# EAGLE library part ELECMETER_MA07-2 (library HOME_AutomationV_1.0)
PIN HEADER
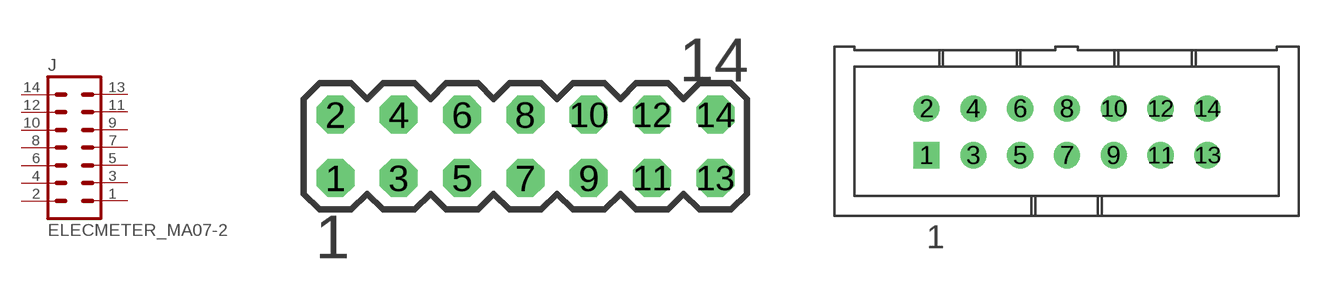
[diagram p0: symbol with the pads of ELECMETER_MA07-2; footprints ELECMETER_MA07-2, ELECMETER_MA07-2JTAG]

Designator prefix J

## ELECMETER_MA07-2  [ELECMETER_MA07-2]
1  1  pas
2  2  pas
3  3  pas
4  4  pas
5  5  pas
6  6  pas
7  7  pas
8  8  pas
9  9  pas
10  10  pas
11  11  pas
12  12  pas
13  13  pas
14  14  pas

## ELECMETER_MA07-2MA07-2JTAG  [ELECMETER_MA07-2JTAG]
Pads as for ELECMETER_MA07-2

## Footprint ELECMETER_MA07-2 (pad centres in mm)
PIN HEADER
drill 1.016 octagon: 1 -7.62,-1.27; 2 -7.62,1.27; 3 -5.08,-1.27; 4 -5.08,1.27; 5 -2.54,-1.27; 6 -2.54,1.27; 7 0,-1.27; 8 0,1.27; 9 2.54,-1.27; 10 2.54,1.27; 11 5.08,-1.27; 12 5.08,1.27; 13 7.62,-1.27; 14 7.62,1.27

## Footprint ELECMETER_MA07-2JTAG (pad centres in mm)
drill 0.9 pad 1.422 square: 1 0,0
drill 0.9 pad 1.422: 2 0,2.54; 3 2.54,0; 4 2.54,2.54; 5 5.08,0; 6 5.08,2.54; 7 7.62,0; 8 7.62,2.54; 9 10.16,0; 10 10.16,2.54; 11 12.7,0; 12 12.7,2.54; 13 15.24,0; 14 15.24,2.54